# Altium footprint library MyPCB.PcbLib: 10 footprints
Each footprint in its own frame and in the unit in brackets; x right, y up, seen from the top. Pads: shape width x height; smd on the part's side, far side on the other; paste and mask are expansions set on the pad; w line width, h text height; cw(c..) or ccw(c..) is an arc to the next point about the centre after c.
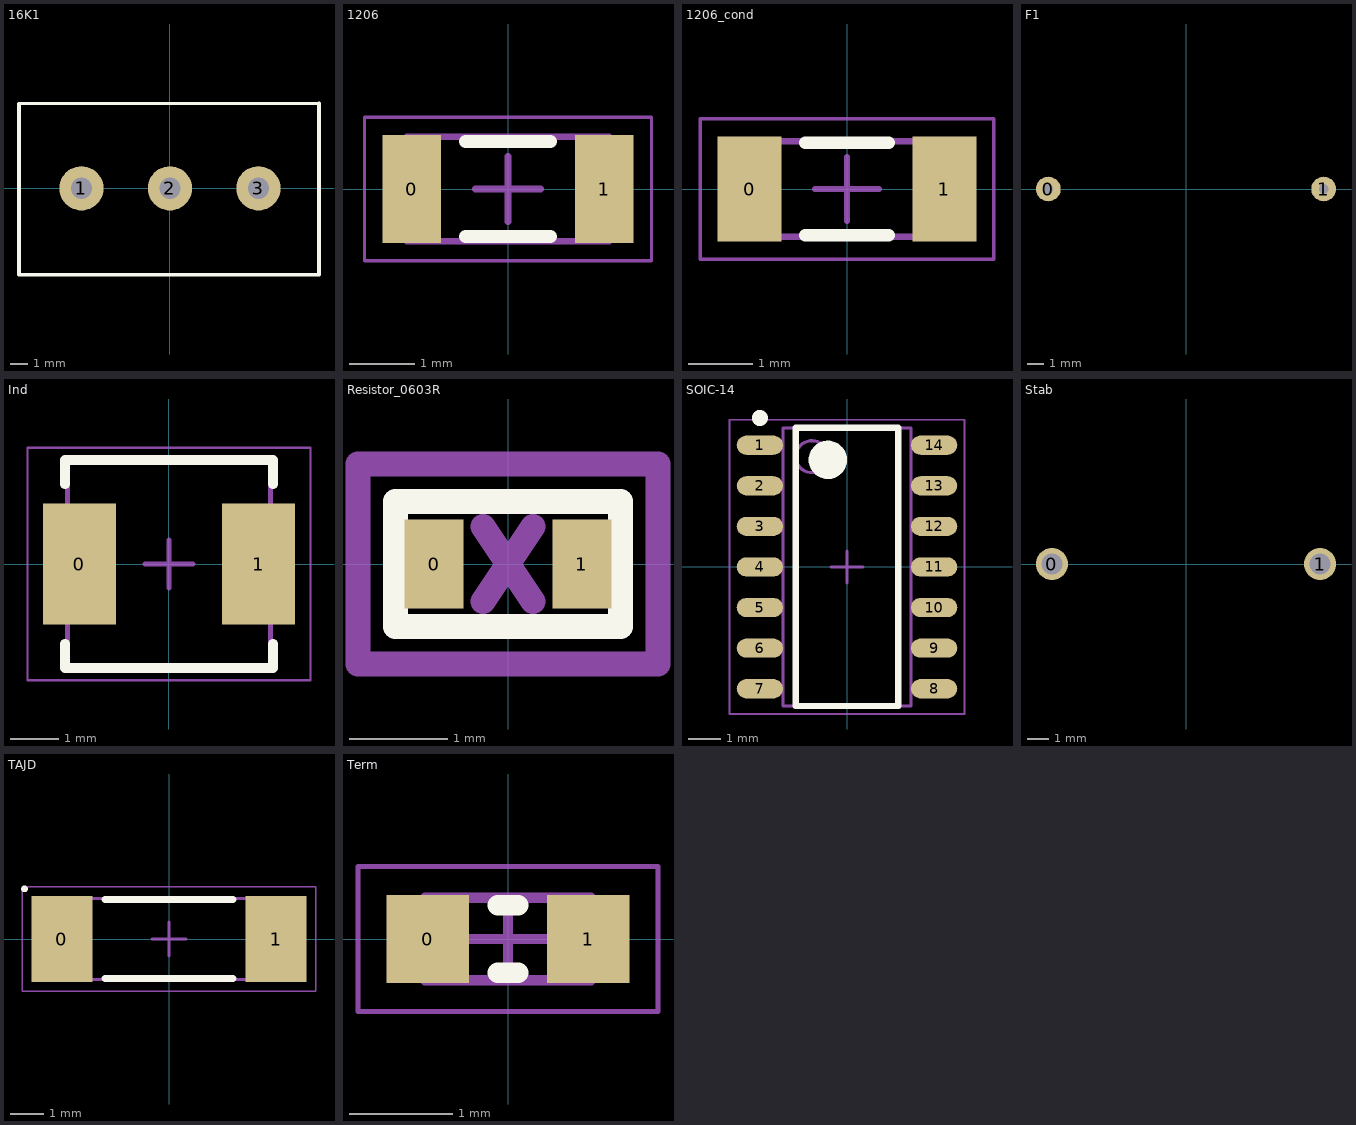
[diagram p0: the footprints below, top view; thin cyan lines are the x and y axes]

## 16K1 [mm]
pads (3):
  round 2.5 hole 1.2 mask+0.102: 1(-5,0) 2(0,0) 3(5,0)
Top Overlay:
  lines w0.2: -8.525,-4.875 -8.525,4.775 8.425,4.8 8.425,-4.875 -8.525,-4.875
3D body "16к1.m3d.stp": height 22.5, standoff -2.5, extent -8.525,-19.4 8.475,4.9

## 1206 [mm] "Chip Resistor, 2-Leads, Body 3,10x1,60mm, IPC Medium Density"
height 0.55
pads (2):
  rect 0.9x1.65 smd: 0(-1.475,0) 1(1.475,0)
Top Overlay:
  lines w0.2: -0.65,-0.725 0.65,-0.725 ; -0.65,0.725 0.65,0.725
3D Model:
  lines w0.1: -1.55,-0.8 -1.55,0.8 1.55,0.8 1.55,-0.8 -1.55,-0.8
Border:
  lines w0.05: -2.2,-1.1 -2.2,1.1 2.2,1.1 2.2,-1.1 -2.2,-1.1
  lines w0.1: -0.5,0 0.5,0 ; 0,-0.5 0,0.5
3D body "res_1206.stp": height 0.54, standoff -0.01, extent -1.55,-0.8 1.55,0.8

## 1206_cond [mm]
height 1.5
pads (2):
  rect 1x1.65 smd: 0(-1.525,0) 1(1.525,0)
Top Overlay:
  lines w0.2: -0.65,-0.725 0.65,-0.725 ; -0.65,0.725 0.65,0.725
3D Model:
  lines w0.1: -1.6,-0.75 1.6,-0.75 1.6,0.75 -1.6,0.75 -1.6,-0.75
Border:
  lines w0.05: -2.3,-1.1 2.3,-1.1 2.3,1.1 -2.3,1.1 -2.3,-1.1
  lines w0.1: -0.5,0 0.5,0 ; 0,-0.5 0,0.5
3D body "cond_1206.stp": height 1.49, standoff -0.01, extent -1.6,-0.8 1.6,0.8

## F1 [mm]
pads (2):
  round 1.524 hole 0.6: 0(-8.5,0) 1(8.5,0)
3D body "Fuse.stp": height 6, standoff -2, extent -8.8,-1.497 8.798,1.497

## Ind [mm] "Molded Inductor, 2-Leads, Body 4,20x4,20mm, IPC Medium Density"
height 1.8
pads (2):
  rect 1.5x2.5 smd: 0(-1.85,0) 1(1.85,0)
Top Overlay:
  lines w0.2: -2.15,-1.65 -2.15,-2.15 2.15,-2.15 2.15,-1.65 ; -2.15,1.65 -2.15,2.15 2.15,2.15 2.15,1.65
3D Model:
  lines w0.1: -2.1,-2.1 2.1,-2.1 2.1,2.1 -2.1,2.1 -2.1,-2.1
Border:
  lines w0.05: -2.925,-2.4 2.925,-2.4 2.925,2.4 -2.925,2.4 -2.925,-2.4
  lines w0.1: -0.5,0 0.5,0 ; 0,-0.5 0,0.5
3D body "Катушка.stp": height 1.74, standoff -0.01, extent -2.2,-2.041 2.2,2.159

## Resistor_0603R [mm]
pads (2):
  rect 0.6x0.9 smd: 0(-0.75,0) 1(0.75,0)
Top Overlay:
  lines w0.254: -1.143,-0.635 -1.143,0.635 1.143,0.635 1.143,-0.635 -1.143,-0.635
Top Assy:
  lines w0.254: -1.143,-0.635 1.143,-0.635 1.143,0.635 -1.143,0.635 -1.143,-0.635
Border:
  lines w0.254: -0.254,-0.381 0.254,0.381 ; -0.254,0.381 0.254,-0.381 ; -1.524,-1.016 1.524,-1.016 1.524,1.016 -1.524,1.016 -1.524,-1.016

## SOIC-14 [mm] "SOIC, 14-Leads, Body 8,60x3,90mm, Pitch 1,27mm, IPC Medium Density"
height 1.75
pads (14):
  oval 1.45x0.6 smd: 1(-2.725,3.81) 2(-2.725,2.54) 3(-2.725,1.27) 4(-2.725,0) 5(-2.725,-1.27) 6(-2.725,-2.54) 7(-2.725,-3.81) 8(2.725,-3.81) 9(2.725,-2.54) 10(2.725,-1.27) 11(2.725,0) 12(2.725,1.27) 13(2.725,2.54) 14(2.725,3.81)
Top Overlay:
  circle w0.25: c-2.725,4.66 r0.125
  circle w0.6: c-0.6,3.35 r0.3
  lines w0.2: -1.6,-4.35 -1.6,4.35 1.6,4.35 1.6,-4.35 -1.6,-4.35
3D Model:
  circle w0.1: c-1.1,3.45 r0.5
  lines w0.1: -2,-4.35 -2,4.35 2,4.35 2,-4.35 -2,-4.35
Border:
  lines w0.05: -3.675,-4.6 -3.675,4.6 3.675,4.6 3.675,-4.6 -3.675,-4.6
  lines w0.1: -0.5,0 0.5,0 ; 0,-0.5 0,0.5
3D body "SOIC-14.stp": height 1.74, standoff -0.01, extent -3.1,-4.35 3.1,4.4

## Stab [mm]
pads (2):
  round 1.524 hole 1: 0(-6.4,0) 1(6.4,0)
3D body "Стаб.stp": height 6.3, standoff -1.8, extent -6.899,-1.8 6.899,1.8

## TAJD [mm] "Chip Capacitor, 2-Leads, Body 7,30x2,40mm, IPC Medium Density"
height 2.8
pads (2):
  rect 1.8x2.55 smd: 0(-3.175,0) 1(3.175,0)
Top Overlay:
  circle w0.1: c-4.287,1.487 r0.05
  lines w0.2: -1.9,-1.175 1.9,-1.175 ; -1.9,1.175 1.9,1.175
3D Model:
  lines w0.1: -3.65,-1.2 3.65,-1.2 3.65,1.2 -3.65,1.2 -3.65,-1.2
Border:
  lines w0.05: -4.35,-1.55 4.35,-1.55 4.35,1.55 -4.35,1.55 -4.35,-1.55
  lines w0.1: -0.5,0 0.5,0 ; 0,-0.5 0,0.5
3D body "Korpus_D.stp": height 2.89, standoff -0.01, extent -3.65,-2.15 3.65,2.15

## Term [mm] "Chip Resistor, 2-Leads, Body 1,60x0,80mm, IPC Medium Density"
height 0.8
pads (2):
  rect 0.8x0.85 smd: 0(-0.775,0) 1(0.775,0)
Top Overlay:
  lines w0.2: -0.1,-0.325 0.1,-0.325 ; -0.1,0.325 0.1,0.325
3D Model:
  lines w0.1: -0.8,-0.4 0.8,-0.4 0.8,0.4 -0.8,0.4 -0.8,-0.4
Border:
  lines w0.05: -1.45,-0.7 1.45,-0.7 1.45,0.7 -1.45,0.7 -1.45,-0.7
  lines w0.1: -0.4,0 0.4,0 ; 0,-0.4 0,0.4
3D body "Term.stp": height 0.78, standoff -0.02, extent -0.8,-0.4 0.8,0.4